# Altium footprint library PCB - CAPACITOR - ELECTROLYTIC - CAPAE1300X1400N.PcbLib: 1 footprints
Each footprint in its own frame and in the unit in brackets; x right, y up, seen from the top. Pads: shape width x height; smd on the part's side, far side on the other; paste and mask are expansions set on the pad; w line width, h text height; cw(c..) or ccw(c..) is an arc to the next point about the centre after c.
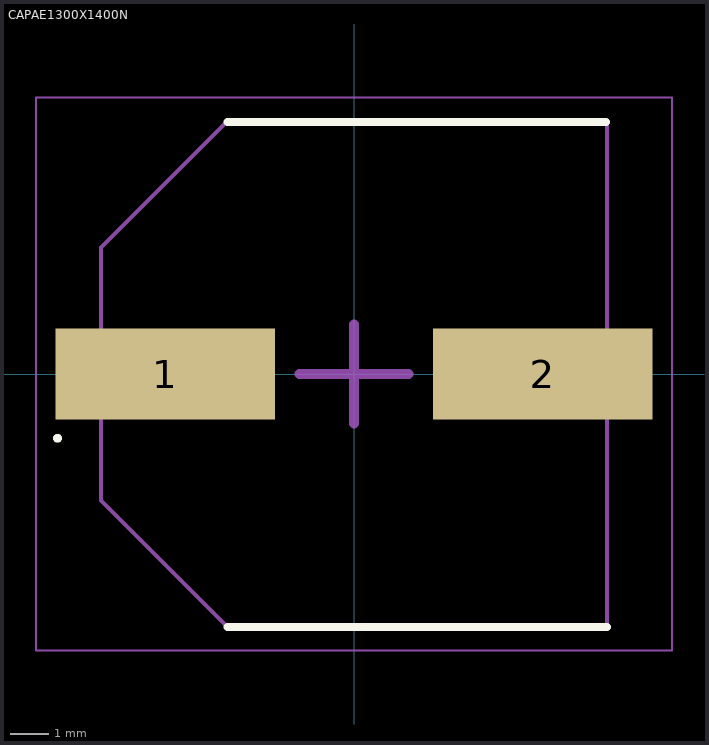
[diagram p0: the footprint, top view; thin cyan lines are the x and y axes]

## CAPAE1300X1400N [mm]
pads (2):
  rect 5.65x2.35 smd: 1(-4.85,0) 2(4.85,0)
Top Overlay:
  circle w0.127: c-7.62,-1.651 r0.051
  lines w0.2: -3.251,6.477 6.477,6.477 ; -3.25,-6.5 6.5,-6.5
Top Assembly:
  lines w0.1: -6.5,-3.25 -6.5,3.25 -3.25,6.5 6.5,6.5 6.5,-6.5 -3.25,-6.5 -6.5,-3.25
Top Courtyard:
  lines w0.05: -8.175,-7.1 -8.175,7.1 8.175,7.1 8.175,-7.1 -8.175,-7.1
Top Designator:
  text ".Designator" at -7.874,2.159 h1.52
Top Component Center:
  lines w0.254: -1.397,0 1.397,0 ; 0,-1.27 0,1.27
3D body "EMHS101ARA111MKE0S.stp": height 14, standoff 0, extent -7.077,-6.6 6.823,6.6